# EAGLE library part MCP73871 (library MyParts)
The MCP73871 device is a fully integrated linear solution for system load sharing and Li-Ion / Li-Polymer battery charge management with ac-dc wall adapter and USB port power sources selection. It?s also capable of autonomous power source selection between input or battery. Along with its small physical size, the low number of required external components makes the device ideally suited for portable applications. The MCP73871 device automatically obtains power for the system load from a single-cell Li-Ion battery or an input power source (ac-dc wall adapter or USB port). The MCP73871 device specifically adheres to the current drawn limits governed by the USB specification. With an ac-dc wall adapter providing power to the system, an external resistor sets the magnitude of 1A maximum charge current while supports up to 1.8A total current for system load and battery charge current. The MCP73871 device employs a constant current / constant voltage (CC/CV) charge algorithm with selectable charge termination point. The constant voltage regulation is fixed with four available options: 4.10V, 4.20V, 4.35V, or 4.40V to accommodate new, emerging battery charging requirements. The MCP73871 device also limits the charge current based on die temperature during high power or high ambient conditions. This thermal regulation optimizes the charge cycle time while maintaining device reliability. The MCP73871 device includes a low battery indicator, a power-good indicator and two charge status indicators that allows for outputs with LEDs or communication with host microcontrollers. The MCP73871 device is fully specified over the ambient temperature range of -40°C to +85°C.
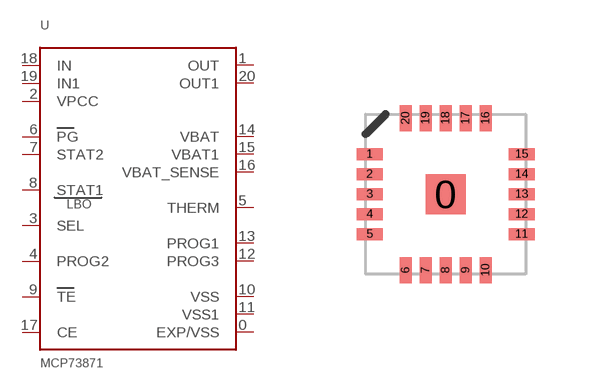
[diagram p9: symbol with the pads of QFN20; footprint QFN20]

Designator prefix -

## MCP73871  [QFN20]
0  EXP/VSS
1  OUT
2  VPCC
3  SEL
4  PROG2
5  THERM
6  PG
7  STAT2
8  STAT1
9  TE
10  VSS
11  VSS1
12  PROG3
13  PROG1
14  VBAT
15  VBAT1
16  VBAT_SENSE
17  CE
18  IN
19  IN1
20  OUT1

## Footprint QFN20 (pad centres in mm)
QFN-20 4x4mm Package
smd 1 x 1: 0 0,0
smd 0.65 x 0.3: 1 -1.9,1; 2 -1.9,0.5; 3 -1.9,0; 4 -1.9,-0.5; 5 -1.9,-1; 11 1.9,-1; 12 1.9,-0.5; 13 1.9,0; 14 1.9,0.5; 15 1.9,1
smd 0.3 x 0.65: 6 -1,-1.9; 7 -0.5,-1.9; 8 0,-1.9; 9 0.5,-1.9; 10 1,-1.9; 16 1,1.9; 17 0.5,1.9; 18 0,1.9; 19 -0.5,1.9; 20 -1,1.9